# Altium schematic symbol library sepic.SchLib: 3 symbols
Pins are listed as number, name and electrical type; pins without a type are passive.

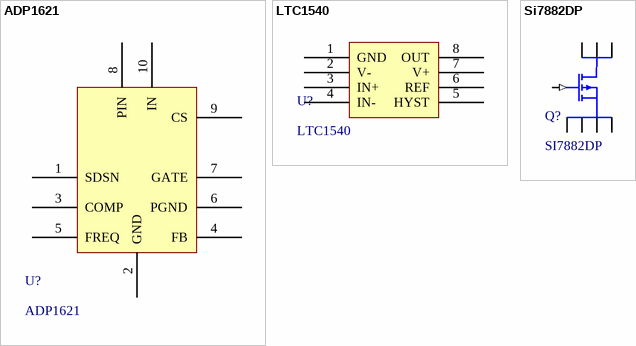
[diagram p0: symbols ADP1621 to Si7882DP]

## ADP1621
designator U?
SEPIC / Boost Controller; Digikey: ADP1621ARMZ-R7CT-ND; DigikeyPrice: 2.97; Farnell: 1461500; FarnellPrice: 5.27
footprint MSOP10 (ADM1191)
pins: 1 SDSN, 2 GND, 3 COMP, 4 FB, 5 FREQ, 6 PGND, 7 GATE, 8 PIN, 9 CS, 10 IN

## LTC1540
designator U?
Comparator with Reference & Hysterisis; Farnell: 1663644; FarnellPrice: 5.62; Digikey: LTC1540IS8#PBF-ND; DigikeyPrice: 3.5
footprint SO8
pins: 1 GND, 2 V-, 3 IN+, 4 IN-, 5 HYST, 6 REF, 7 V+, 8 OUT

## Si7882DP
designator Q?, comment SI7882DP
Power N mosfet; Farnell: 1470159; FarnellPrice: 5.15
footprint SO8
pins: 1 S (io), 2 S (io), 3 S (io), 4 G (in), 5 D (io), 6 D (io), 7 D (io), 8 D (io)